# Altium footprint library REDFIT_6.PcbLib: 1 footprints
Each footprint in its own frame and in the unit in brackets; x right, y up, seen from the top. Pads: shape width x height; smd on the part's side, far side on the other; paste and mask are expansions set on the pad; w line width, h text height; cw(c..) or ccw(c..) is an arc to the next point about the centre after c.
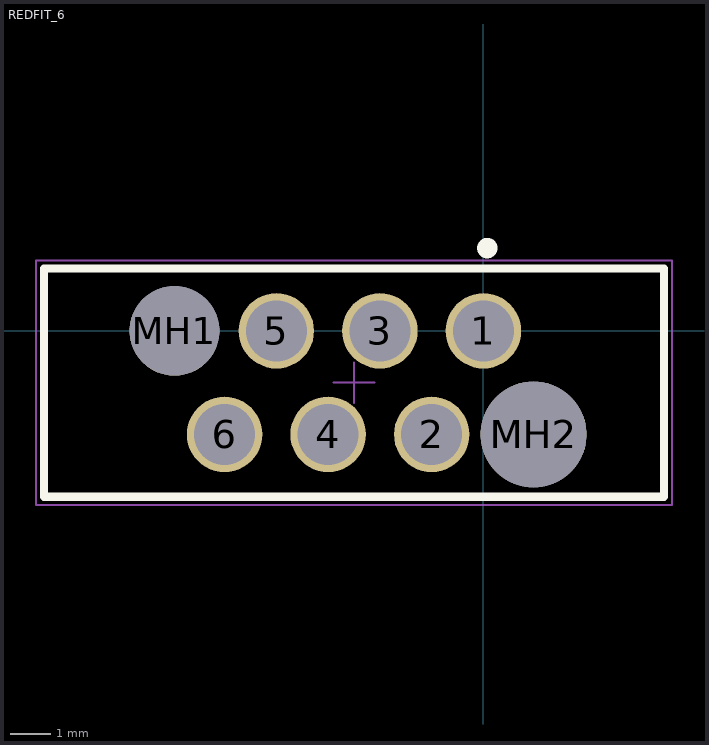
[diagram p0: the footprint, top view; thin cyan lines are the x and y axes]

## REDFIT_6 [mm]
pads (8):
  round 1.85 hole 1.5: 1(0,0) 2(-1.27,-2.54) 3(-2.54,0) 4(-3.81,-2.54) 5(-5.08,0) 6(-6.35,-2.54)
  round 2.2 hole 2.2 unplated: MH1(-7.58,0)
  round 2.6 hole 2.6 unplated: MH2(1.23,-2.54)
Top Overlay:
  circle w0.25: c0.095,2.03 r0.125
  lines w0.2: -10.78,-4.07 4.43,-4.07 4.43,1.53 -10.78,1.53 -10.78,-4.07
Mechanical 13:
  lines w0.1: -10.78,-4.07 -10.78,1.53 4.43,1.53 4.43,-4.07 -10.78,-4.07
Mechanical 15:
  lines w0.05: -3.675,-1.27 -2.675,-1.27 ; -3.175,-1.77 -3.175,-0.77 ; -10.98,-4.27 -10.98,1.73 4.63,1.73 4.63,-4.27 -10.98,-4.27
3D body "490107670612.stp": height 10.5, standoff -4.45, extent -10.78,-4.07 4.43,1.53